# Altium footprint library Cap.PcbLib: 9 footprints
Each footprint in its own frame and in the unit in brackets; x right, y up, seen from the top. Pads: shape width x height; smd on the part's side, far side on the other; paste and mask are expansions set on the pad; w line width, h text height; cw(c..) or ccw(c..) is an arc to the next point about the centre after c.
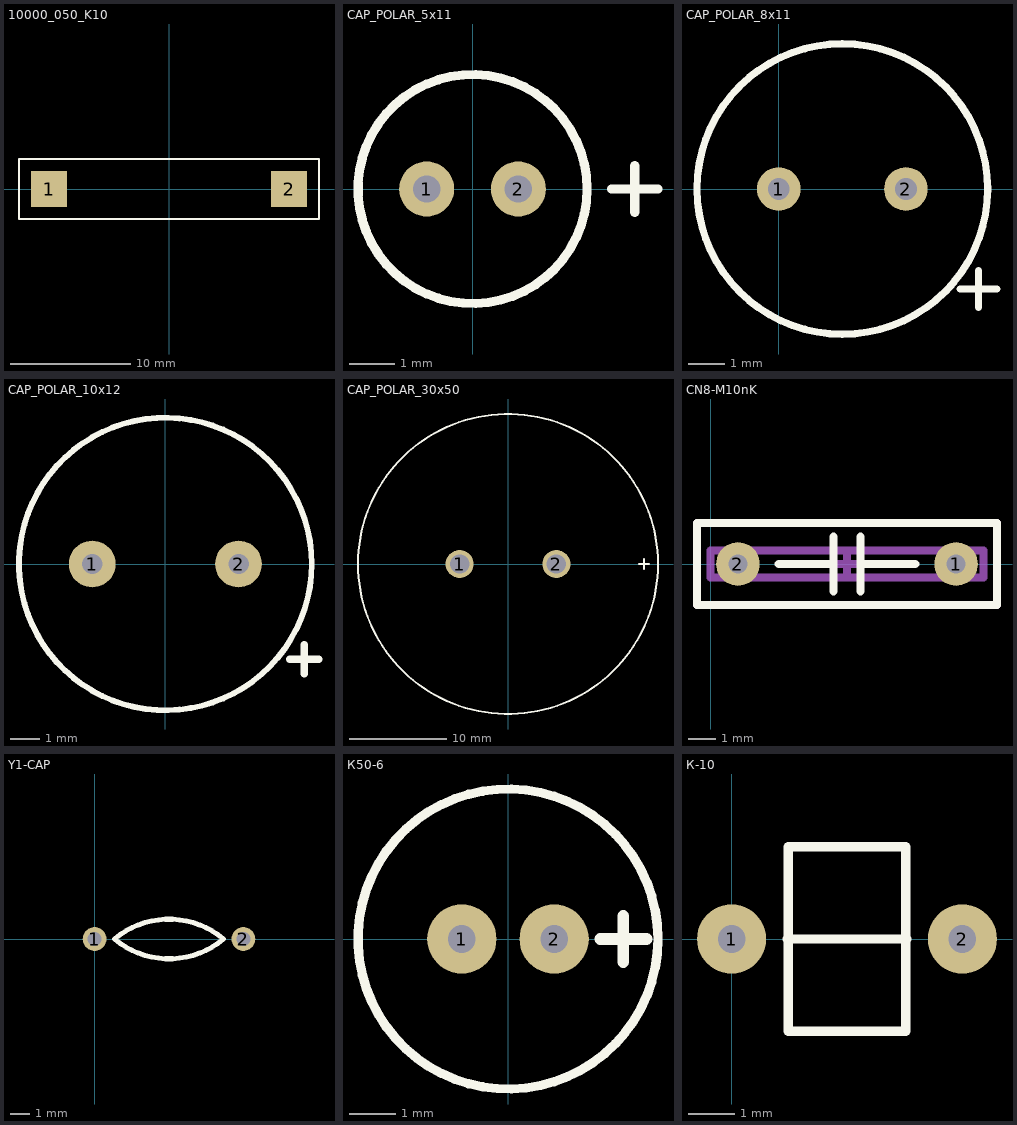
[diagram p0: the footprints below, top view; thin cyan lines are the x and y axes]

## 10000_050_K10 [mm]
pads (2):
  rect 3x3 smd: 1(-10,0) 2(10,0)
Top Overlay:
  lines w0.2: -12.5,-2.5 12.5,-2.5 12.5,2.5 -12.5,2.5 -12.5,0 -12.5,-2.5
3D body: height 16, standoff 3, extent -12,-2 12,2
3D body: height 3, standoff 0, extent -10.347,0.651 -9.65,1.35
3D body: height 3, standoff 0, extent 9.653,0.651 10.35,1.349
3D body: height 0.7, standoff 0, extent -10.349,-1 -9.651,1
3D body: height 0.7, standoff 0, extent 9.651,-1 10.35,1

## CAP_POLAR_5x11 [mm]
height 11
pads (2):
  round 1.2 hole 0.6: 1(-1,0) 2(1,0)
Top Overlay:
  circle w0.2: c0,0 r2.5
  lines w0.2: 3.032,0 4.048,0 ; 3.54,-0.508 3.54,0.508
3D body "CAP_TH_5x11.STEP": height 11, standoff -2.5, extent -2.5,-2.5 2.5,2.5

## CAP_POLAR_8x11 [mm]
pads (2):
  round 1.2 hole 0.6: 1(0,0) 2(3.5,0)
Top Overlay:
  circle w0.2: c1.75,0 r4
  lines w0.2: 4.992,-2.75 6.008,-2.75 ; 5.5,-3.258 5.5,-2.242
3D body "Cap-EL 8x11-3_5.STEP": height 11.3, standoff -3, extent -2.227,-3.998 5.775,3.998

## CAP_POLAR_10x12 [mm] "Polar through-hole capactitor 10mm diamiter"
height 20
pads (2):
  round 1.6 hole 0.7: 1(-2.5,0) 2(2.5,0)
Top Overlay:
  circle w0.2: c0,0 r5
  lines w0.254: 4.25,-3.25 5.25,-3.25 ; 4.75,-3.75 4.75,-2.75
3D body "Capacitor_electrolyte_10x10_CE_R200_D400_H400.step": height 10.16, standoff -2.3, extent -5.08,-5.08 5.08,5.08

## CAP_POLAR_30x50 [mm] "Корпус электролитического конденсатора Yageo серии LG типа 30х45"
height 47
pads (2):
  round 2.9 hole 2: 1(-5,0) 2(5,0)
Top Overlay:
  circle w0.2: c0,0 r15.5
  lines w0.2: 13.532,0 14.548,0 ; 14.04,-0.508 14.04,0.508
3D body "CAP_TH_30x50.STEP": height 51.8, standoff -5.89, extent -15.24,-15.239 15.24,15.24

## CN8-M10nK [mm] "CN8-M10nK Yellow Block Caps For Filter"
height 10
pads (2):
  round 1.6 hole 0.7: 1(9,0) 2(1,0)
Top Overlay:
  lines w0.3: 2.5,0 4.5,0 ; 4.5,-1 4.5,1 ; 5.5,-1 5.5,1 ; 5.5,0 7.5,0 ; -0.5,-1.5 10.5,-1.5 10.5,1.5 -0.5,1.5 -0.5,-1.5
Mechanical 13:
  lines w0.3: 0,-0.5 0,0.5 10,0.5 10,-0.5 0,-0.5
Mechanical 15:
  lines w0.3: 4.5,0 5,0 ; 5,-0.5 5,0 ; 5,0.5 5,0 ; 5.5,0 5,0 ; -0.5,-1.5 -0.5,1.5 10.5,1.5 10.5,-1.5 -0.5,-1.5
3D body: height 10, standoff 3, extent 0,-0.5 10,0.5
3D body: height 3, standoff 0, extent 0.653,-0.349 1.35,0.35
3D body: height 3, standoff 0, extent 8.653,-0.349 9.35,0.35

## Y1-CAP [mm]
pads (2):
  round 1.2 hole 0.7: 1(0,0) 2(7.5,0)
Top Overlay:
  lines w0.254: 1,0 ccw(c3.75,3.281) 6.5,0 ccw(c3.75,-3.281) 1,0

## К50-6 [mm]
pads (2):
  round 1.5 hole 0.6: 1(-1,0) 2(1,0)
Top Overlay:
  circle w0.2: c0,0 r3.25
  lines w0.254: 2,0 3,0 ; 2.5,-0.5 2.5,0.5
3D body: height 14, standoff 0, extent -3.071,-2.115 -2.191,2.115
3D body: height 15, standoff 0, extent -2.976,-2.994 3,2.994
3D body: height 15.1, standoff 0, extent -2.877,-2.894 2.9,2.894

## К-10 [mm]
pads (2):
  round 1.5 hole 0.6: 1(0,0) 2(5,0)
Top Overlay:
  lines w0.2: 1.2,0 3.775,0 ; 1.225,0 3.8,0 ; 3.775,0 3.775,-2 1.225,-2 1.225,2 3.775,2 3.775,0
3D body: height 10, standoff 5, extent -1,-1 6,1
3D body: height 6, standoff 0, extent -0.298,-0.299 0.3,0.299
3D body: height 6, standoff 0, extent 4.702,-0.299 5.3,0.299